# Altium footprint library BD139.PcbLib: 1 footprints
Each footprint in its own frame and in the unit in brackets; x right, y up, seen from the top. Pads: shape width x height; smd on the part's side, far side on the other; paste and mask are expansions set on the pad; w line width, h text height; cw(c..) or ccw(c..) is an arc to the next point about the centre after c.
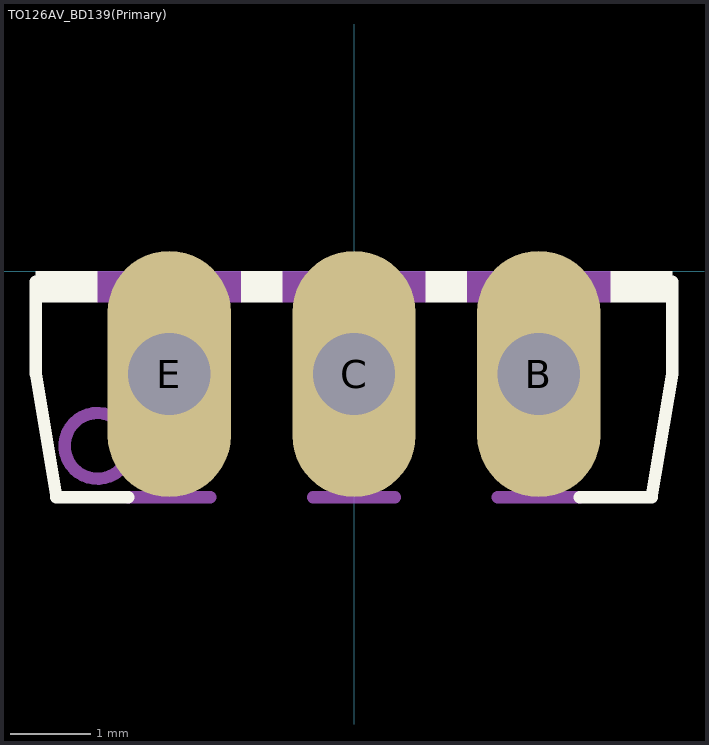
[diagram p0: the footprint, top view; thin cyan lines are the x and y axes]

## TO126AV_BD139(Primary) [mil]
pads (3):
  oval 60x120 hole 40: B(90,-50) C(0,-50) E(-90,-50)
Top Overlay:
  region: 125.09,0 155,0 155,-15.01 125.09,-15.01
  region: 35.04,0 55,0 55,-15.02 35.04,-15.02
  region: -55.05,0 -35,0 -35,-15.01 -55.05,-15.01
  region: -155.01,0 -125,0 -125,-15 -155.01,-15
  lines w6: -155,-5 -155,-50 -145,-110 -110,-110 ; 110,-110 145,-110 155,-50 155,-5
Mechanical 4:
  circle w6: c-125,-85 r16
  circle w6: c-125,-85 r16
  region: 55.11,0 125,0 125,-15.03 55.11,-15.03
  region: -35.02,0 35,0 35,-15.01 -35.02,-15.01
  region: -125.14,0 -55,0 -55,-15.02 -125.14,-15.02
  region: 55.11,0 125,0 125,-15.03 55.11,-15.03
  region: -35.02,0 35,0 35,-15.01 -35.02,-15.01
  region: -125.14,0 -55,0 -55,-15.02 -125.14,-15.02
  lines w6: -110,-110 -70,-110 -110,-110 ; -20,-110 20,-110 -20,-110 ; 70,-110 110,-110 70,-110